# Altium integrated library SI2303-NMOS.IntLib: 1 symbol
Pins are listed as number, name and electrical type; pins without a type are passive.

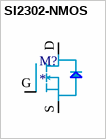
[diagram p0: symbol SI2302-NMOS]

## SI2302-NMOS
designator M?
footprint SOT-23(SOT-23-3)
pins: D 0, G 2, S 1